# Altium footprint library rlc-th.PcbLib: 65 footprints (part 3 of 5)
Each footprint in its own frame and in the unit in brackets; x right, y up, seen from the top. Pads: shape width x height; smd on the part's side, far side on the other; paste and mask are expansions set on the pad; w line width, h text height; cw(c..) or ccw(c..) is an arc to the next point about the centre after c.
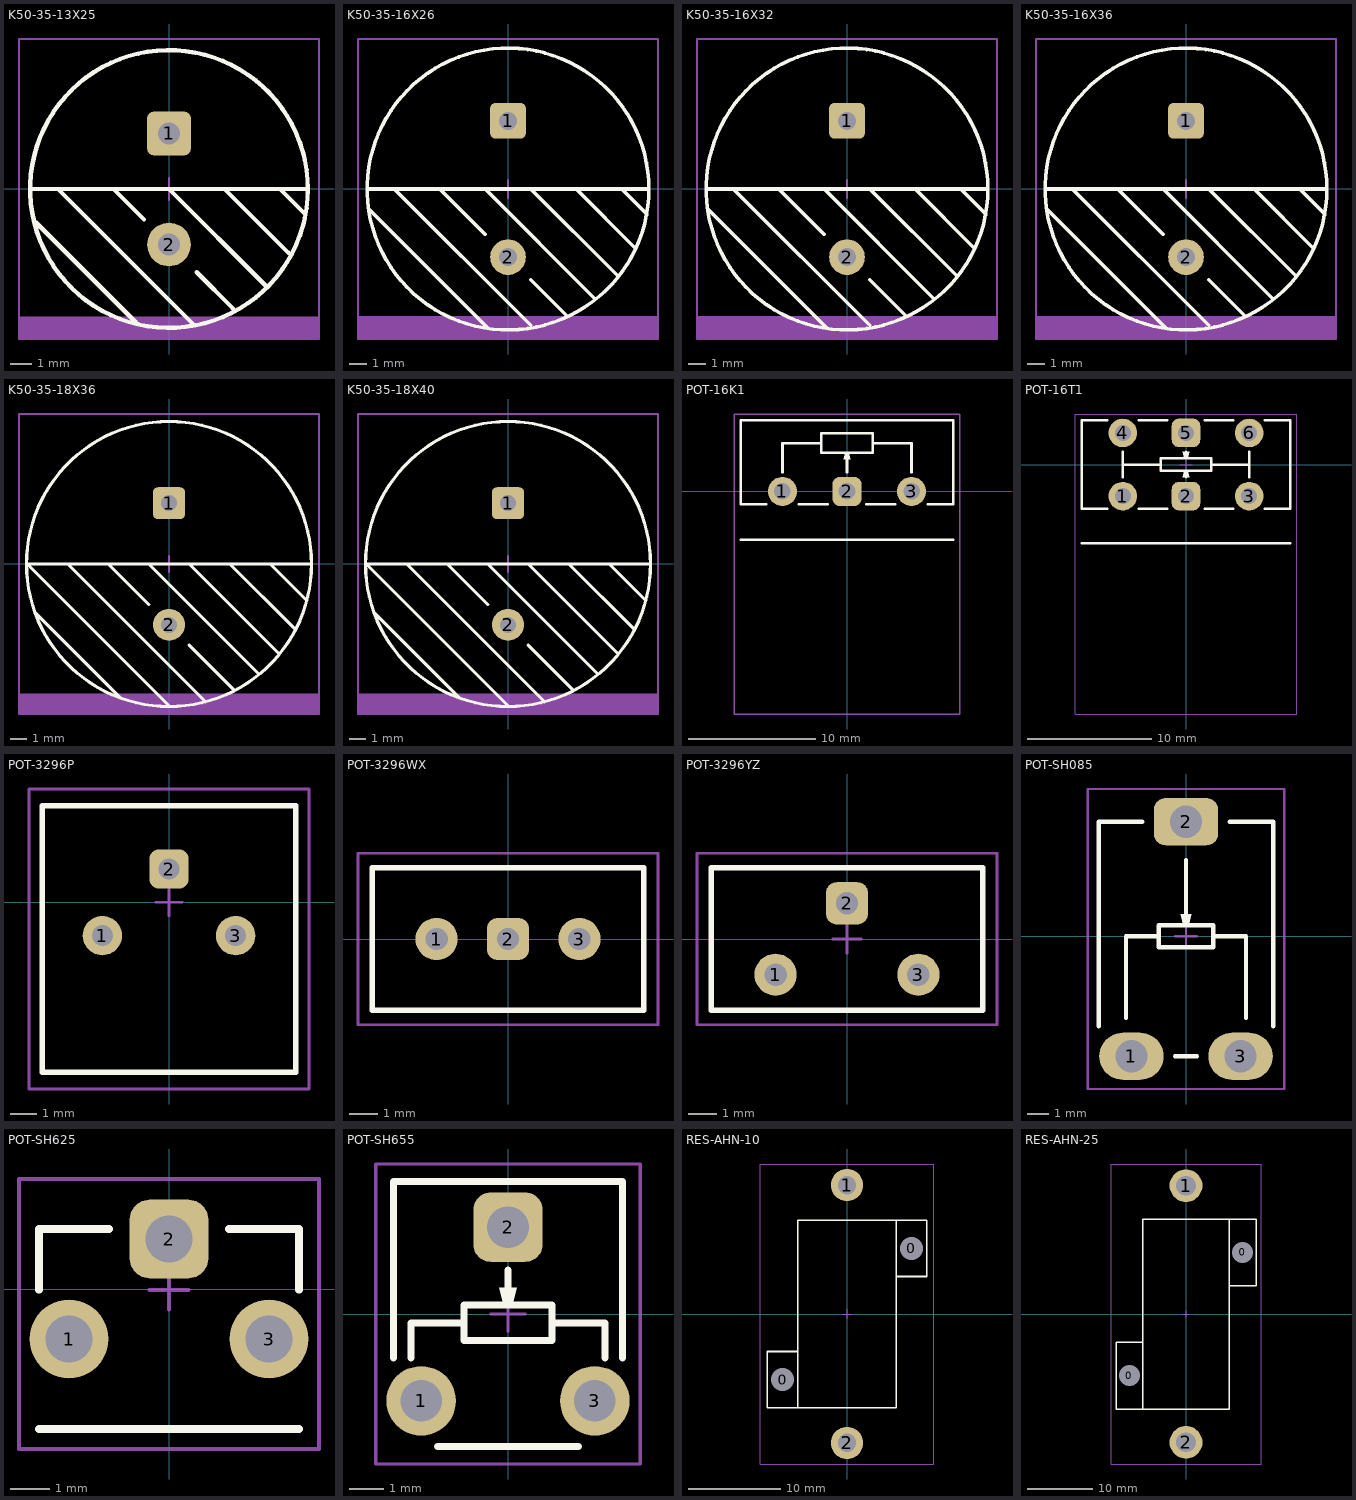
[diagram p2: the footprints below, top view; thin cyan lines are the x and y axes]

## K50-35-13X25 [mm] "QFN, 4-Leads, Body 7,50x5,00mm, Pitch 6,00mm/2,54mm, IPC Medium Density"
height 1.2
pads (2):
  rrect30% 2x2 hole 1: 1(0,2.54)
  round 2 hole 1: 2(0,-2.54)
Top Overlay:
  circle w0.2: c0,0 r6.35
  lines w0.2: -6.35,0 6.35,0 ; -6.096,-1.524 -1.524,-6.096 ; -5.08,0 1.143,-6.223 ; -2.54,0 -1.143,-1.397 ; 0,0 4.445,-4.445 ; 1.27,-3.81 2.921,-5.461 ; 2.54,0 5.461,-2.921 ; 5.08,0 6.223,-1.143
Mechanical 13:
  region: -6.858,-6.858 -6.858,-5.842 6.858,-5.842 6.858,-6.858
  lines w0.1: -6.858,-6.858 6.858,-6.858 6.858,6.858 -6.858,6.858 -6.858,-6.858
  text ".Designator" at -1.016,3.302 h2
Mechanical 15:
  lines w0.05: -6.858,-6.858 -6.858,6.858 6.858,6.858 6.858,-6.858 -6.858,-6.858
  lines w0.1: -0.5,0 0.5,0 ; 0,-0.5 0,0.5
3D body: height 25.1, standoff 0.1, extent -6.604,-6.601 6.604,6.601

## K50-35-16X26 [mm] "QFN, 4-Leads, Body 7,50x5,00mm, Pitch 6,00mm/2,54mm, IPC Medium Density"
height 1.2
pads (2):
  rrect30% 2x2 hole 1: 1(0,3.81)
  round 2 hole 1: 2(0,-3.81)
Top Overlay:
  circle w0.2: c0,0 r7.874
  lines w0.2: -7.874,0 7.874,0 ; -7.747,-1.143 -1.143,-7.747 ; -6.35,0 1.27,-7.62 ; -3.81,0 -1.27,-2.54 ; -1.27,0 4.826,-6.096 ; 1.27,-5.08 3.302,-7.112 ; 1.27,0 6.096,-4.826 ; 3.81,0 7.112,-3.302 ; 6.35,0 7.747,-1.397
Mechanical 13:
  region: -8.382,-8.382 -8.382,-7.112 8.382,-7.112 8.382,-8.382
  lines w0.1: -8.382,-8.382 -8.382,8.382 8.382,8.382 8.382,-8.382 -8.382,-8.382
  text ".Designator" at -1.27,4.826 h3
Mechanical 15:
  lines w0.05: -8.382,-8.382 -8.382,8.382 8.382,8.382 8.382,-8.382 -8.382,-8.382
  lines w0.1: -0.5,0 0.5,0 ; 0,-0.5 0,0.5
3D body: height 26.1, standoff 0.1, extent -8,-7.997 8,7.997

## K50-35-16X32 [mm] "QFN, 4-Leads, Body 7,50x5,00mm, Pitch 6,00mm/2,54mm, IPC Medium Density"
height 1.2
pads (2):
  rrect30% 2x2 hole 1: 1(0,3.81)
  round 2 hole 1: 2(0,-3.81)
Top Overlay:
  circle w0.2: c0,0 r7.874
  lines w0.2: -7.874,0 7.874,0 ; -7.747,-1.143 -1.143,-7.747 ; -6.35,0 1.27,-7.62 ; -3.81,0 -1.27,-2.54 ; -1.27,0 4.826,-6.096 ; 1.27,-5.08 3.302,-7.112 ; 1.27,0 6.096,-4.826 ; 3.81,0 7.112,-3.302 ; 6.35,0 7.747,-1.397
Mechanical 13:
  region: -8.382,-8.382 -8.382,-7.112 8.382,-7.112 8.382,-8.382
  lines w0.1: -8.382,-8.382 8.382,-8.382 8.382,8.382 -8.382,8.382 -8.382,-8.382
  text ".Designator" at -1.27,4.826 h3
Mechanical 15:
  lines w0.05: -8.382,-8.382 8.382,-8.382 8.382,8.382 -8.382,8.382 -8.382,-8.382
  lines w0.1: -0.5,0 0.5,0 ; 0,-0.5 0,0.5
3D body: height 32.1, standoff 0.1, extent -8,-7.996 8,7.996

## K50-35-16X36 [mm] "QFN, 4-Leads, Body 7,50x5,00mm, Pitch 6,00mm/2,54mm, IPC Medium Density"
height 1.2
pads (2):
  rrect30% 2x2 hole 1: 1(0,3.81)
  round 2 hole 1: 2(0,-3.81)
Top Overlay:
  circle w0.2: c0,0 r7.874
  lines w0.2: -7.874,0 7.874,0 ; -7.747,-1.143 -1.143,-7.747 ; -6.35,0 1.27,-7.62 ; -3.81,0 -1.27,-2.54 ; -1.27,0 4.826,-6.096 ; 1.27,-5.08 3.302,-7.112 ; 1.27,0 6.096,-4.826 ; 3.81,0 7.112,-3.302 ; 6.35,0 7.747,-1.397
Mechanical 13:
  region: -8.382,-8.382 -8.382,-7.112 8.382,-7.112 8.382,-8.382
  lines w0.1: -8.382,-8.382 -8.382,8.382 8.382,8.382 8.382,-8.382 -8.382,-8.382
  text ".Designator" at -1.27,4.826 h3
Mechanical 15:
  lines w0.05: -8.382,-8.382 -8.382,8.382 8.382,8.382 8.382,-8.382 -8.382,-8.382
  lines w0.1: -0.5,0 0.5,0 ; 0,-0.5 0,0.5
3D body: height 36.1, standoff 0.1, extent -8,-8 8,8

## K50-35-18X36 [mm] "QFN, 4-Leads, Body 7,50x5,00mm, Pitch 6,00mm/2,54mm, IPC Medium Density"
height 1.2
pads (2):
  rrect30% 2x2 hole 1: 1(0,3.81)
  round 2 hole 1: 2(0,-3.81)
Top Overlay:
  circle w0.2: c0,0 r8.929
  lines w0.2: -8.382,-3.048 -3.048,-8.382 ; -6.35,0 2.286,-8.636 ; -3.81,0 -1.27,-2.54 ; -1.27,0 5.588,-6.858 ; 0,-8.89 -8.89,0 8.89,0 ; 1.27,-5.08 4.064,-7.874 ; 1.27,0 6.858,-5.588 ; 3.81,0 7.874,-4.064 ; 6.35,0 8.636,-2.286
Mechanical 13:
  region: -9.398,-9.398 -9.398,-8.128 9.398,-8.128 9.398,-9.398
  lines w0.1: -9.398,-9.398 9.398,-9.398 9.398,9.398 -9.398,9.398 -9.398,-9.398
  text ".Designator" at -1.27,4.826 h3
Mechanical 15:
  lines w0.05: -9.398,-9.398 -9.398,9.398 9.398,9.398 9.398,-9.398 -9.398,-9.398
  lines w0.1: -0.5,0 0.5,0 ; 0,-0.5 0,0.5
3D body: height 36.1, standoff 0.1, extent -9,-8.995 9,8.995

## K50-35-18X40 [mm] "QFN, 4-Leads, Body 7,50x5,00mm, Pitch 6,00mm/2,54mm, IPC Medium Density"
height 1.2
pads (2):
  rrect30% 2x2 hole 1: 1(0,3.81)
  round 2 hole 1: 2(0,-3.81)
Top Overlay:
  circle w0.2: c0,0 r8.929
  lines w0.2: -8.382,-3.048 -3.048,-8.382 ; -6.35,0 2.286,-8.636 ; -3.81,0 -1.27,-2.54 ; -1.27,0 5.588,-6.858 ; 0,-8.89 -8.89,0 8.89,0 ; 1.27,-5.08 4.064,-7.874 ; 1.27,0 6.858,-5.588 ; 3.81,0 7.874,-4.064 ; 6.35,0 8.636,-2.286
Mechanical 13:
  region: -9.398,-9.398 -9.398,-8.128 9.398,-8.128 9.398,-9.398
  lines w0.1: -9.398,-9.398 9.398,-9.398 9.398,9.398 -9.398,9.398 -9.398,-9.398
  text ".Designator" at -1.27,4.826 h3
Mechanical 15:
  lines w0.05: -9.398,-9.398 9.398,-9.398 9.398,9.398 -9.398,9.398 -9.398,-9.398
  lines w0.1: -0.5,0 0.5,0 ; 0,-0.5 0,0.5
3D body: height 40.1, standoff 0.1, extent -9,-8.995 9,8.995

## POT-16K1 [mm]
pads (3):
  round 2.3 hole 1.3: 1(-5.08,0) 3(5.08,0)
  rrect50% 2.3x2.3 hole 1.3: 2(0,0)
Top Overlay:
  region: -0.254,2.54 0.254,2.54 0.127,3.048 -0.127,3.048
  lines w0.2: -8.382,-3.81 8.382,-3.81 ; -6.35,-1.016 -8.382,-1.016 -8.382,5.588 8.382,5.588 8.382,-1.016 6.35,-1.016 ; -5.08,1.524 -5.08,3.81 -2.032,3.81 ; -3.81,-1.016 -1.524,-1.016 ; 0,1.524 0,3.048 ; 1.524,-1.016 3.81,-1.016 ; 2.032,3.81 5.08,3.81 5.08,1.524 ; -2.032,3.048 2.032,3.048 2.032,4.572 -2.032,4.572 -2.032,3.048
Mechanical 13:
  lines w0.1: -8.89,-17.526 -8.89,6.096 8.89,6.096 8.89,-17.526 -8.89,-17.526
  text ".Designator" at -5.08,-0.762 h3
Mechanical 15:
  lines w0.05: -8.89,-17.526 8.89,-17.526 8.89,6.096 -8.89,6.096 -8.89,-17.526
  lines w0.1: -0.5,0 0.5,0 ; 0,-0.5 0,0.5
3D body: height 16, standoff 9, extent -3.5,-6.858 3.5,-0.254
3D body: height 15.5, standoff 9.5, extent -3,-17.018 3,-6.858
3D body: height 8, standoff 0.1, extent -7.62,-1.016 7.62,0.254
3D body: height 21, standoff 4, extent -8.5,-0.412 8.5,5.588

## POT-16T1 [mm]
pads (6):
  round 2.3 hole 1.3: 1(-5.08,-2.54) 3(5.08,-2.54) 4(-5.08,2.54) 6(5.08,2.54)
  rrect50% 2.3x2.3 hole 1.3: 2(0,-2.54) 5(0,2.54)
Top Overlay:
  region: -0.254,-1.016 0.254,-1.016 0.127,-0.508 -0.127,-0.508
  region: -0.254,1.016 0.254,1.016 0.127,0.508 -0.127,0.508
  lines w0.2: -8.382,-6.35 8.382,-6.35 ; -6.35,-3.556 -8.382,-3.556 -8.382,3.556 -6.35,3.556 ; -5.08,-1.016 -5.08,1.016 ; -5.08,0 -2.032,0 ; -3.81,-3.556 -1.524,-3.556 ; -3.81,3.556 -1.524,3.556 ; 0,-1.016 0,-0.508 ; 0,0.508 0,1.016 ; 1.524,-3.556 3.81,-3.556 ; 1.524,3.556 3.81,3.556 ; 2.032,0 5.08,0 ; 5.08,-1.016 5.08,1.016 ; 6.35,-3.556 8.382,-3.556 8.382,3.556 6.35,3.556 ; -2.032,-0.508 -2.032,0.508 2.032,0.508 2.032,-0.508 -2.032,-0.508
Mechanical 13:
  lines w0.1: -8.89,-20.066 -8.89,4.064 8.89,4.064 8.89,-20.066 -8.89,-20.066
  text ".Designator" at -5.08,-1.27 h3
Mechanical 15:
  lines w0.05: -8.89,-20.066 -8.89,4.064 8.89,4.064 8.89,-20.066 -8.89,-20.066
  lines w0.1: -0.5,0 0.5,0 ; 0,-0.5 0,0.5
3D body: height 20.88, standoff 4.12, extent -8.415,-2.952 8.349,3.048
3D body: height 8, standoff 0.1, extent -7.62,-3.556 7.62,-2.286
3D body: height 15.5, standoff 9.5, extent -3,-19.558 3,-9.398
3D body: height 16, standoff 9, extent -3.5,-9.398 3.5,-2.794
3D body: height 8, standoff 0.1, extent -7.62,2.286 7.62,3.556

## POT-3296P [mm]
pads (3):
  round 1.5 hole 0.8: 1(-2.54,-1.27) 3(2.54,-1.27)
  rrect50% 1.5x1.5 hole 0.8: 2(0,1.27)
Top Overlay:
  lines w0.2: -4.826,-6.477 4.826,-6.477 4.826,3.683 -4.826,3.683 -4.826,-6.477
Mechanical 13:
  lines w0.1: -5.334,-7.112 -5.334,4.318 5.334,4.318 5.334,-7.112 -5.334,-7.112
  text ".Designator" at -2.286,-1.778 h1.4
Mechanical 15:
  lines w0.05: -5.334,-7.112 5.334,-7.112 5.334,4.318 -5.334,4.318 -5.334,-7.112
  lines w0.1: -0.508,0 0.508,0 ; 0,-0.508 0,0.508
3D body: height 5, standoff 0.1, extent -4.826,-6.477 4.826,3.683

## POT-3296WX [mm]
pads (3):
  round 1.5 hole 0.8: 1(-2.54,0) 3(2.54,0)
  rrect50% 1.5x1.5 hole 0.8: 2(0,0)
Top Overlay:
  lines w0.2: -4.826,-2.54 4.826,-2.54 4.826,2.54 -4.826,2.54 -4.826,-2.54
Mechanical 13:
  lines w0.1: -5.334,-3.048 -5.334,3.048 5.334,3.048 5.334,-3.048 -5.334,-3.048
  text ".Designator" at -2.286,-0.508 h1.4
Mechanical 15:
  lines w0.05: -5.334,-3.048 5.334,-3.048 5.334,3.048 -5.334,3.048 -5.334,-3.048
  lines w0.1: -0.508,0 0.508,0 ; 0,-0.508 0,0.508
3D body: height 10, standoff 0.1, extent -4.826,-2.54 4.826,2.54

## POT-3296YZ [mm]
pads (3):
  round 1.5 hole 0.8: 1(-2.54,-1.27) 3(2.54,-1.27)
  rrect50% 1.5x1.5 hole 0.8: 2(0,1.27)
Top Overlay:
  lines w0.2: -4.826,-2.54 4.826,-2.54 4.826,2.54 -4.826,2.54 -4.826,-2.54
Mechanical 13:
  lines w0.1: -5.334,-3.048 -5.334,3.048 5.334,3.048 5.334,-3.048 -5.334,-3.048
  text ".Designator" at -2.286,-0.508 h1.4
Mechanical 15:
  lines w0.05: -5.334,-3.048 5.334,-3.048 5.334,3.048 -5.334,3.048 -5.334,-3.048
  lines w0.1: -0.508,0 0.508,0 ; 0,-0.508 0,0.508
3D body: height 10, standoff 0.1, extent -4.826,-2.54 4.826,2.54

## POT-SH085 [mm]
pads (3):
  oval 3x2.2 hole 1.5: 1(-2.54,-5.588) 3(2.54,-5.588)
  rrect50% 3x2.2 hole 1.5: 2(0,5.334)
Top Overlay:
  region: -0.254,1.016 0.254,1.016 0.127,0.508 -0.127,0.508
  lines w0.2: -4.064,-4.191 -4.064,5.334 -2.032,5.334 ; -2.794,-3.81 -2.794,0 -1.27,0 ; -0.508,-5.588 0.508,-5.588 ; 0,0.762 0,3.556 ; 1.27,0 2.794,0 2.794,-3.81 ; 2.032,5.334 4.064,5.334 4.064,-4.191 ; -1.27,-0.508 -1.27,0.508 1.27,0.508 1.27,-0.508 -1.27,-0.508
Mechanical 13:
  lines w0.1: -4.572,-7.112 -4.572,6.858 4.572,6.858 4.572,-7.112 -4.572,-7.112
  text ".Designator" at -2.286,-0.508 h1.4
Mechanical 15:
  lines w0.05: -4.572,-7.112 -4.572,6.858 4.572,6.858 4.572,-7.112 -4.572,-7.112
  lines w0.1: -0.508,0 0.508,0 ; 0,-0.508 0,0.508
3D body: height 5, standoff 2, extent -4.064,-5.842 4.064,5.334

## POT-SH625 [mm]
pads (3):
  round 2 hole 1.2: 1(-2.54,-1.27) 3(2.54,-1.27)
  rrect50% 2x2 hole 1.2: 2(0,1.27)
Top Overlay:
  lines w0.2: -3.302,-3.556 3.302,-3.556 ; -3.302,-0.02 -3.302,1.524 -1.524,1.524 ; 1.524,1.524 3.302,1.524 3.302,-0.02
Mechanical 13:
  lines w0.1: -3.81,-4.064 3.81,-4.064 3.81,2.794 -3.81,2.794 -3.81,-4.064
  text ".Designator" at -2.286,-1.016 h1.4
Mechanical 15:
  lines w0.05: -3.81,-4.064 3.81,-4.064 3.81,2.794 -3.81,2.794 -3.81,-4.064
  lines w0.1: -0.5,-0.02 0.5,-0.02 ; 0,-0.52 0,0.48
3D body: height 9, standoff 1, extent -3.302,-3.556 3.302,1.524

## POT-SH655 [mm]
pads (3):
  round 2 hole 1.2: 1(-2.5,-2.5) 3(2.5,-2.5)
  rrect50% 2x2 hole 1.2: 2(0,2.5)
Top Overlay:
  region: -0.254,0.762 0.254,0.762 0.127,0.254 -0.127,0.254
  lines w0.2: -3.302,-1.27 -3.302,3.81 3.302,3.81 3.302,-1.27 ; -2.794,-1.27 -2.794,-0.254 -1.27,-0.254 ; -2.032,-3.81 2.032,-3.81 ; 0,0.508 0,1.27 ; 1.27,-0.254 2.794,-0.254 2.794,-1.27 ; -1.27,-0.762 -1.27,0.254 1.27,0.254 1.27,-0.762 -1.27,-0.762
Mechanical 13:
  lines w0.1: -3.81,-4.318 -3.81,4.318 3.81,4.318 3.81,-4.318 -3.81,-4.318
  text ".Designator" at -2.286,-0.508 h1.4
Mechanical 15:
  lines w0.05: -3.81,-4.318 3.81,-4.318 3.81,4.318 -3.81,4.318 -3.81,-4.318
  lines w0.1: -0.5,0 0.5,0 ; 0,-0.5 0,0.5
3D body: height 5, standoff 0.5, extent -3.302,-3.81 3.302,3.81

## RES-AHN-10 [mm] "QFN, 4-Leads, Body 7,50x5,00mm, Pitch 6,00mm/2,54mm, IPC Medium Density"
height 1.2
pads (4):
  round 2 hole 2.5: 0(-6.985,-7.112) 0(6.985,7.112)
  round 3.5 hole 2: 1(0,13.97) 2(0,-13.97)
Top Overlay:
  lines w0.2: -5.334,-4.064 -8.636,-4.064 -8.636,-10.16 -5.334,-10.16 ; 5.334,4.064 8.636,4.064 8.636,10.16 5.334,10.16 ; -5.334,-10.16 5.334,-10.16 5.334,10.16 ; -5.334,-10.16 -5.334,10.16 5.334,10.16
Mechanical 13:
  lines w0.1: -9.398,-16.256 -9.398,16.256 9.398,16.256 9.398,-16.256 -9.398,-16.256
  text ".Designator" at 1.524,-4.826 h3
Mechanical 15:
  lines w0.05: -9.398,-16.256 9.398,-16.256 9.398,16.256 -9.398,16.256 -9.398,-16.256
  lines w0.1: -0.5,0 0.5,0 ; 0,-0.5 0,0.5
3D body: height 2.5, standoff 0, extent 5.334,4.064 8.636,10.16
3D body: height 10.5, standoff 0, extent -5.334,-10.16 5.334,10.16
3D body: height 2.5, standoff 0, extent -8.636,-10.16 -5.334,-4.064

## RES-AHN-25 [mm] "QFN, 4-Leads, Body 7,50x5,00mm, Pitch 6,00mm/2,54mm, IPC Medium Density"
height 1.2
pads (4):
  round 2 hole 3.2: 0(-8.636,-9.398) 0(8.636,9.398)
  round 5 hole 3: 1(0,19.558) 2(0,-19.558)
Top Overlay:
  lines w0.2: -6.604,-4.318 -10.668,-4.318 -10.668,-14.478 -6.604,-14.478 ; 6.604,4.318 10.668,4.318 10.668,14.478 6.604,14.478 ; -6.604,-14.478 6.604,-14.478 6.604,14.478 ; -6.604,-14.478 -6.604,14.478 6.604,14.478
Mechanical 13:
  lines w0.1: -11.43,-22.86 11.43,-22.86 11.43,22.86 -11.43,22.86 -11.43,-22.86
  text ".Designator" at 1.524,-4.826 h3
Mechanical 15:
  lines w0.05: -11.43,-22.86 11.43,-22.86 11.43,22.86 -11.43,22.86 -11.43,-22.86
  lines w0.1: -0.5,0 0.5,0 ; 0,-0.5 0,0.5
3D body: height 2.5, standoff 0, extent 6.604,4.318 10.668,14.478
3D body: height 14, standoff 0, extent -6.604,-14.478 6.604,14.478
3D body: height 2.5, standoff 0, extent -10.668,-14.478 -6.604,-4.318